# EAGLE library part LTC2400 (library booz)
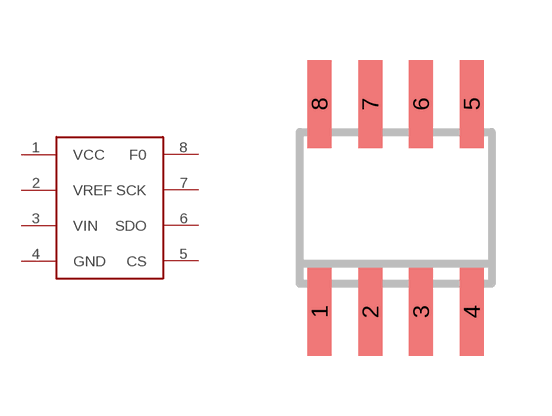
[diagram p1: symbol with the pads of SO8; footprint SO8]

Designator prefix -

## LTC2400  [SO8]
1  VCC
2  VREF
3  VIN
4  GND
5  CS
6  SDO
7  SCK
8  F0

## Footprint SO8 (pad centres in mm)
SMALL OUTLINE INTEGRATED CIRCUIT
smd 0.6 x 2.2: 1 -1.905,-2.6; 2 -0.635,-2.6; 3 0.635,-2.6; 4 1.905,-2.6; 5 1.905,2.6; 6 0.635,2.6; 7 -0.635,2.6; 8 -1.905,2.6